# Altium footprint library KAP01-layout-20190620.PcbLib: 5 footprints
Each footprint in its own frame and in the unit in brackets; x right, y up, seen from the top. Pads: shape width x height; smd on the part's side, far side on the other; paste and mask are expansions set on the pad; w line width, h text height; cw(c..) or ccw(c..) is an arc to the next point about the centre after c.
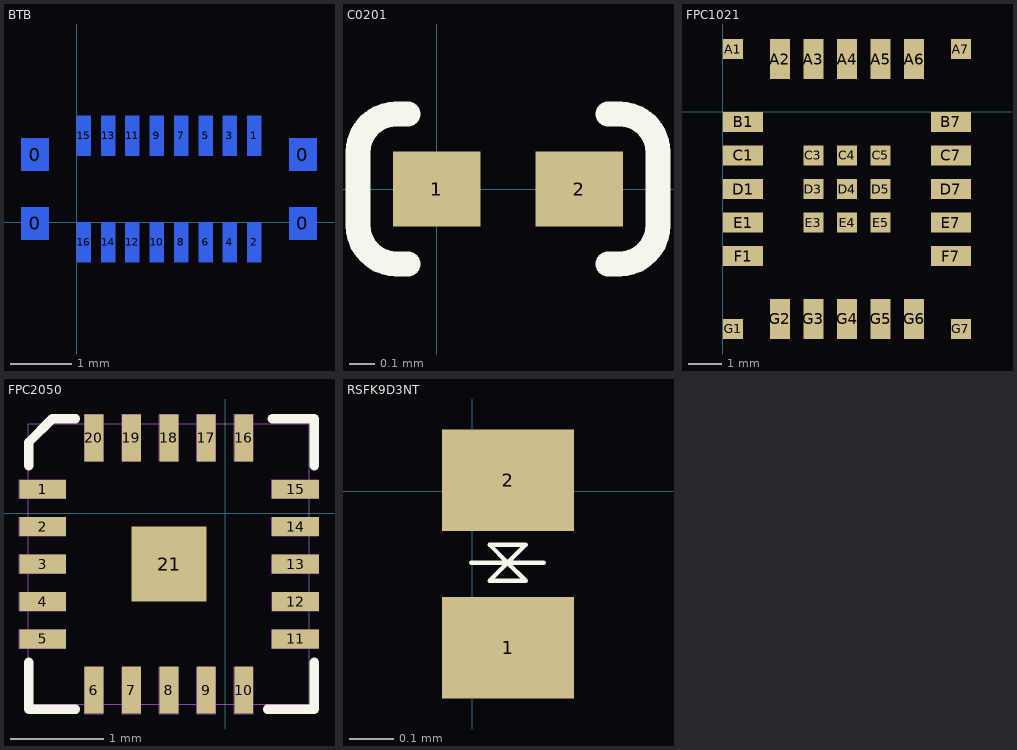
[diagram p0: the footprints below, top view; thin cyan lines are the x and y axes]

## BTB [mm]
pads (20):
  rect 0.45x0.53 smd far side paste+0 mask+0: 0(-0.685,-0.015) 0(-0.685,1.115) 0(3.715,-0.015) 0(3.715,1.115)
  rect 0.23x0.65 smd far side paste+0 mask+0.05: 1(2.915,1.425) 2(2.915,-0.325) 3(2.515,1.425) 4(2.515,-0.325) 5(2.115,1.425) 6(2.115,-0.325) 7(1.715,1.425) 8(1.715,-0.325) 9(1.315,1.425) 10(1.315,-0.325) 11(0.915,1.425) 12(0.915,-0.325) 13(0.515,1.425) 14(0.515,-0.325) 15(0.115,1.425) 16(0.115,-0.325)

## C0201 [mm]
pads (2):
  rect 0.35x0.3 smd paste+0 mask+0.05: 1(0,0) 2(0.57,0)
Top Overlay:
  lines w0.1: -0.115,0.3 -0.162,0.3 ccw(c-0.162,0.147) -0.315,0.147 -0.315,-0.145 ccw(c-0.16,-0.145) -0.16,-0.3 ; 0.685,0.3 0.732,0.3 cw(c0.732,0.147) 0.885,0.147 0.885,-0.145 cw(c0.73,-0.145) 0.73,-0.3 ; -0.16,-0.3 -0.115,-0.3 -0.16,-0.3 ; 0.73,-0.3 0.685,-0.3 0.73,-0.3

## FPC1021 [mm]
pads (33):
  rect 0.6x0.6 smd paste+0 mask+0: A1(0.3,1.875) A7(7.1,1.875) C3(2.7,-1.3) C4(3.7,-1.3) C5(4.7,-1.3) D3(2.7,-2.3) D4(3.7,-2.3) D5(4.7,-2.3) E3(2.7,-3.3) E4(3.7,-3.3) E5(4.7,-3.3) G1(0.3,-6.475) G7(7.1,-6.475)
  rect 0.6x1.2 smd paste+0 mask+0: A2(1.7,1.575) A3(2.7,1.575) A4(3.7,1.575) A5(4.7,1.575) A6(5.7,1.575) G2(1.7,-6.175) G3(2.7,-6.175) G4(3.7,-6.175) G5(4.7,-6.175) G6(5.7,-6.175)
  rect 1.2x0.6 smd paste+0 mask+0: B1(0.6,-0.3) B7(6.8,-0.3) C1(0.6,-1.3) C7(6.8,-1.3) D1(0.6,-2.3) D7(6.8,-2.3) E1(0.6,-3.3) E7(6.8,-3.3) F1(0.6,-4.3) F7(6.8,-4.3)

## FPC2050 [mm]
pads (21):
  rect 0.5x0.2 smd paste+0 mask+0.05: 1(-1.946,0.259) 2(-1.946,-0.141) 3(-1.946,-0.541) 4(-1.946,-0.941) 5(-1.946,-1.341) 11(0.754,-1.341) 12(0.754,-0.941) 13(0.754,-0.541) 14(0.754,-0.141) 15(0.754,0.259)
  rect 0.2x0.5 smd paste+0 mask+0.05: 6(-1.399,-1.887) 7(-0.999,-1.887) 8(-0.599,-1.887) 9(-0.199,-1.887) 10(0.201,-1.887) 16(0.201,0.806) 17(-0.199,0.806) 18(-0.599,0.806) 19(-0.999,0.806) 20(-1.399,0.806)
  rect 0.8x0.8 smd paste+0 mask+0: 21(-0.596,-0.541)
Top Overlay:
  lines w0.1: -2.096,-1.591 -2.096,-2.091 -1.596,-2.091 ; -2.096,0.509 -2.096,0.759 -1.846,1.009 -1.596,1.009 ; 0.454,-2.091 0.954,-2.091 0.954,-1.591 ; 0.504,1.009 0.954,1.009 0.954,0.509
Mechanical 1:
  lines w0.01: -2.2,-1.441 -2.2,-1.241 -1.7,-1.241 -1.7,-1.441 -2.2,-1.441 ; -2.2,-1.041 -2.2,-0.841 -1.7,-0.841 -1.7,-1.041 -2.2,-1.041 ; -2.2,-0.641 -2.2,-0.441 -1.7,-0.441 -1.7,-0.641 -2.2,-0.641 ; -2.2,-0.241 -2.2,-0.041 -1.7,-0.041 -1.7,-0.241 -2.2,-0.241 ; -2.2,0.159 -2.2,0.359 -1.7,0.359 -1.7,0.159 -2.2,0.159 ; -2.1,-2.041 0.9,-2.041 0.9,0.959 -2.1,0.959 -2.1,-2.041 ; -1.5,-2.141 -1.3,-2.141 -1.3,-1.641 -1.5,-1.641 -1.5,-2.141 ; -1.5,0.559 -1.3,0.559 -1.3,1.059 -1.5,1.059 -1.5,0.559 ; -1.1,-2.141 -0.9,-2.141 -0.9,-1.641 -1.1,-1.641 -1.1,-2.141 ; -1.1,0.559 -0.9,0.559 -0.9,1.059 -1.1,1.059 -1.1,0.559 ; -0.7,-2.141 -0.5,-2.141 -0.5,-1.641 -0.7,-1.641 -0.7,-2.141 ; -0.7,0.559 -0.5,0.559 -0.5,1.059 -0.7,1.059 -0.7,0.559 ; -0.3,-2.141 -0.1,-2.141 -0.1,-1.641 -0.3,-1.641 -0.3,-2.141 ; -0.3,0.559 -0.1,0.559 -0.1,1.059 -0.3,1.059 -0.3,0.559 ; 0.1,-2.141 0.3,-2.141 0.3,-1.641 0.1,-1.641 0.1,-2.141 ; 0.1,0.559 0.3,0.559 0.3,1.059 0.1,1.059 0.1,0.559 ; 0.5,-1.441 0.5,-1.241 1,-1.241 1,-1.441 0.5,-1.441 ; 0.5,-1.041 0.5,-0.841 1,-0.841 1,-1.041 0.5,-1.041 ; 0.5,-0.641 0.5,-0.441 1,-0.441 1,-0.641 0.5,-0.641 ; 0.5,-0.241 0.5,-0.041 1,-0.041 1,-0.241 0.5,-0.241 ; 0.5,0.159 0.5,0.359 1,0.359 1,0.159 0.5,0.159

## RSFK9D3NT [mm]
pads (2):
  rect 0.3x0.23 smd paste+0 mask+0.05: 1(0.081,-0.355) 2(0.081,0.025)
Top Overlay:
  lines w0.01: -0.002,-0.162 0.08,-0.162 ; 0.162,-0.162 0.08,-0.162 ; 0.08,-0.162 0.121,-0.203 0.039,-0.203 0.08,-0.162 ; 0.08,-0.162 0.039,-0.121 0.121,-0.121 0.08,-0.162